# Altium schematic symbol library BCP56-16T1G.Schlib: 1 symbol
Pins are listed as number, name and electrical type; pins without a type are passive.

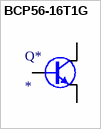
[diagram p0: symbol BCP56-16T1G]

## BCP56-16T1G
designator Q*
NPN 1A 80V 1.5W SOT-223 Transistors (NPN/PNP) RoHS; LCSC Part #: C16602; JLCPCB Part Type: Extended; ComponentLink1Description: LCSC - ON Semiconductor BCP56-16T1G; ComponentLink1URL: https://lcsc.com/product-detail/Transistors-NPN-PNP_ON-Semicon_BCP56-16T1G_ON-Semicon-ON-BCP56-16T1G_C16602.html/?href=jlc-SMT
footprint SOT-223 T
pins: 1 B, 2 C, 3 E